# EAGLE library part HP_ISOLATION_ADAPTER (library hp-la)
HARTING
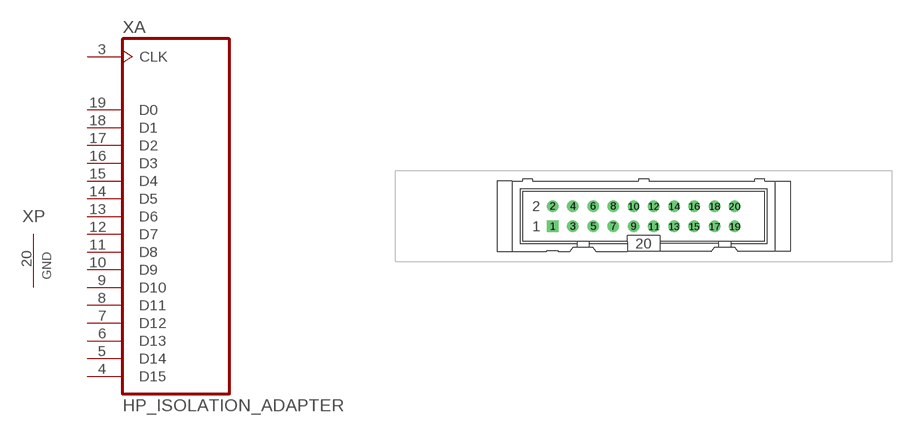
[diagram p0: symbol with the pads of ISOLATION_ADAPTER; footprint ISOLATION_ADAPTER]

Designator prefix X; gates A=ISOLATION_ADAPTER P=GND

## HP_ISOLATION_ADAPTER (OC_FARNELL: unknown; OC_NEWARK: unknown)  [ISOLATION_ADAPTER]
3  A:CLK
4  A:D15  in
5  A:D14  in
6  A:D13  in
7  A:D12  in
8  A:D11  in
9  A:D10  in
10  A:D9  in
11  A:D8  in
12  A:D7  in
13  A:D6  in
14  A:D5  in
15  A:D4  in
16  A:D3  in
17  A:D2  in
18  A:D1  in
19  A:D0  in
20  P:GND  pwr

## Footprint ISOLATION_ADAPTER (pad centres in mm)
HP Logic Analyzer Footprint
drill 0.914 square: 1 -11.43,-1.27
drill 0.914: 2 -11.43,1.27; 3 -8.89,-1.27; 4 -8.89,1.27; 5 -6.35,-1.27; 6 -6.35,1.27; 7 -3.81,-1.27; 8 -3.81,1.27; 9 -1.27,-1.27; 10 -1.27,1.27; 11 1.27,-1.27; 12 1.27,1.27; 13 3.81,-1.27; 14 3.81,1.27; 15 6.35,-1.27; 16 6.35,1.27; 17 8.89,-1.27; 18 8.89,1.27; 19 11.43,-1.27; 20 11.43,1.27